# Altium schematic symbol library TIDA_00620.SchLib: 58 symbols (part 5 of 5)
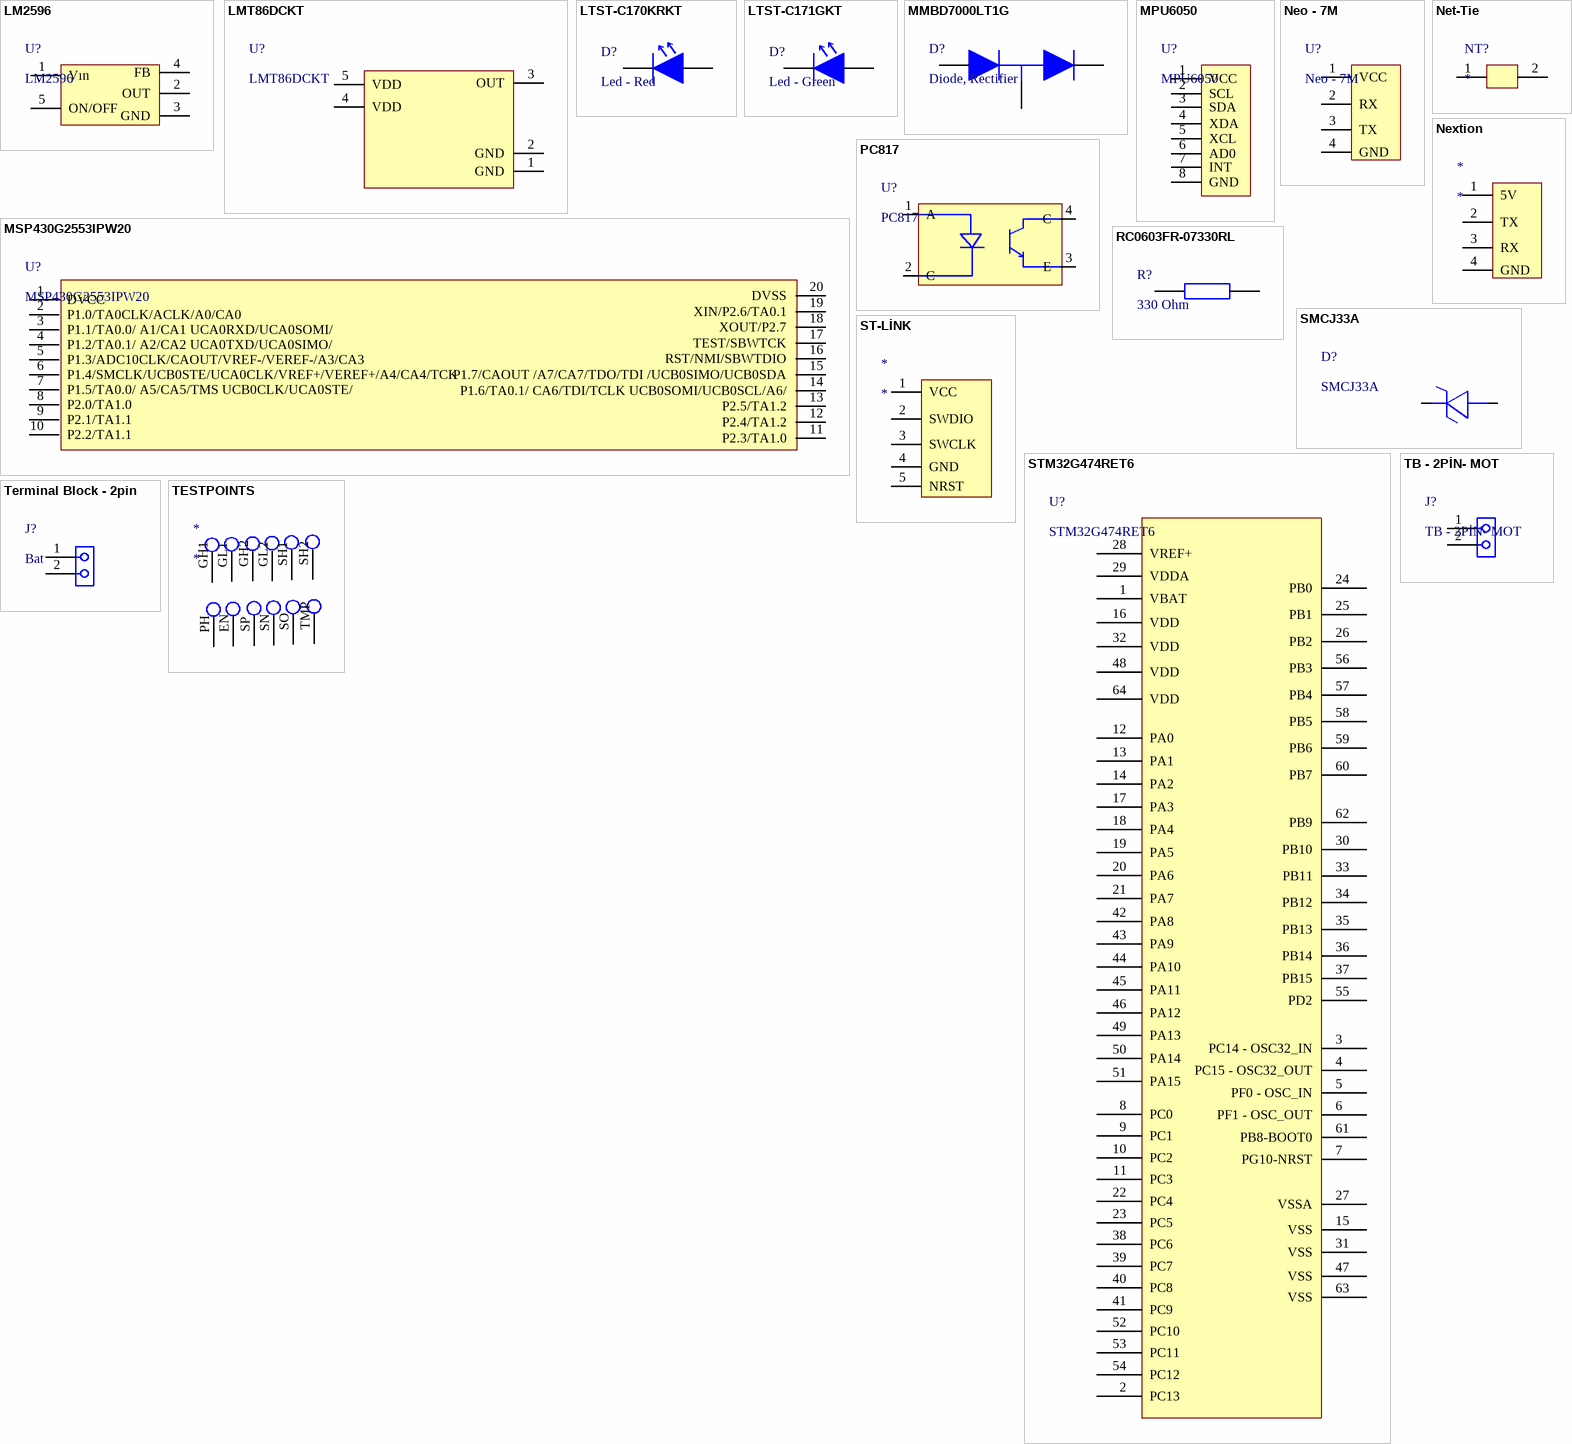
[diagram p5: symbols LM2596 to TESTPOINTS]

## LMT86DCKT
designator U?
2.2V-Capable, 10 uA Analog Output Temperature Sensor in SC70 and TO-92 5-SC70 -50 to 150; Manufacturer: Texas Instruments; Manufacturer Lifecycle Status: OBSOLETE; Max Junction Temperature (Tj): 150°C; Max Supply Voltage: 5.5V; Min Supply Voltage: 2.2V; Nominal Supply Current: 5.4µA; Output Current: 7mA; Output Voltage: 150mV; Supplier: Mouser; Supplier Part Number: 595-LMT86DCKT; Manufacturer Part Number: LMT86DCKT; RoHS: Compliant; Category: Temperature and Humidity Sensors; Stock: 14953; Pricing: 1=1,05, 10=0,822, 50=0,784, 100=0,709, 1000=0,635, 10000=0,596 (USD); Ambient Temperature Range High: 150°C; Case/Package: SC; Height: 1.1mm; Interface: Analog; Lead Free: Lead Free; Length: 2mm; Lifecycle Status: Obsolete; Max Operating Temperature: 150°C; Min Operating Temperature: -50°C; Mounting Technology: Surface Mount; Pins: 5; Operating Supply Current: 5.4µA; Output Type: ANALOG; Packaging: Cut Tape; Quiescent Current: 5.4µA; Radiation Hardening: No; REACH SVHC: No; Schedule B: 8542390000, 8542390000|8542390000|8542390000|8542390000|8542390000; Thickness: 900µm; Width: 1.25mm; ComponentLink1URL: https://sigma.octopart.com:443/182282879/technical_drawing/Texas-Instruments-LMT86DCKT.pdf?src-supplier=Texas+Instruments; ComponentLink1Description: https://sigma.octopart.com:443/182282879/technical_drawing/Texas-Instruments-LMT86DCKT.pdf?src-supplier=Texas+Instruments; ComponentLink2URL: https://octopart.com:443/opatz8j6/c1?t=9HQWOq9vND9b112XOORCH9Vsw1tDULado_71xZVJD5NCDKKbo5Ghebw2v1WkowqZDmkFyXd3CdhKpSqCk7PtQOQ7x-G2JpCPf_WjxdC5NMg5jKfyra5aiwnhNPwQhaItqLqfVAzBzWTS-c0ov57vA77sSY7z2rAPniNTZvNDKUMZfXkGbrAzWQCv1qZrHSDSg3qjKiyU7_eC7562E4E85R2VNSwCtGeJJLgAb4JoBUkX8cOn-YW7xKv7mq24ixEkLrSvCint_SPV1kOoFa0e-FYBvRA-X5e5sItaWLcgSJ4jRxFhImzPQgymLOz7X93vKvNF5nr-spi1A9my05NiWkr-vMM4xm9RJAmqZ0e4SRFjq62_Iov__ZokAK-EkgB-HL_1&src-supplier=Texas+Instruments; ComponentLink2Description: https://octopart.com:443/opatz8j6/c1?t=9HQWOq9vND9b112XOORCH9Vsw1tDULado_71xZVJD5NCDKKbo5Ghebw2v1WkowqZDmkFyXd3CdhKpSqCk7PtQOQ7x-G2JpCPf_WjxdC5NMg5jKfyra5aiwnhNPwQhaItqLqfVAzBzWTS-c0ov57vA77sSY7z2rAPniNTZvNDKUMZfXkGbrAzWQCv1qZrHSDSg3qjKiyU7_eC7562E4E85R2VNSwCtGeJJLgAb4JoBUkX8cOn-YW7xKv7mq24ixEkLrSvCint_SPV1kOoFa0e-FYBvRA-X5e5sItaWLcgSJ4jRxFhImzPQgymLOz7X93vKvNF5nr-spi1A9my05NiWkr-vMM4xm9RJAmqZ0e4SRFjq62_Iov__ZokAK-EkgB-HL_1&src-supplier=Texas+Instruments; ComponentLink3URL: https://sigma.octopart.com:443/179129132/technical_drawing/Texas-Instruments-LMT86DCKT.pdf?src-supplier=Texas+Instruments; ComponentLink3Description: https://sigma.octopart.com:443/179129132/technical_drawing/Texas-Instruments-LMT86DCKT.pdf?src-supplier=Texas+Instruments; ComponentLink4URL: https://sigma.octopart.com:443/176385615/technical_drawing/Texas-Instruments-LMT86DCKT.pdf?src-supplier=Texas+Instruments; ComponentLink4Description: https://sigma.octopart.com:443/176385615/technical_drawing/Texas-Instruments-LMT86DCKT.pdf?src-supplier=Texas+Instruments; ComponentLink5URL: https://sigma.octopart.com:443/169406035/technical_drawing/Texas-Instruments-LMT86DCKT.pdf?src-supplier=Texas+Instruments; ComponentLink5Description: https://sigma.octopart.com:443/169406035/technical_drawing/Texas-Instruments-LMT86DCKT.pdf?src-supplier=Texas+Instruments; ComponentLink6URL: https://datasheet.octopart.com:443/LMT86DCKT-Texas-Instruments-datasheet-41216413.pdf?src-supplier=Texas+Instruments; ComponentLink6Description: https://datasheet.octopart.com:443/LMT86DCKT-Texas-Instruments-datasheet-41216413.pdf?src-supplier=Texas+Instruments; ComponentLink7URL: https://datasheet.octopart.com:443/LMT86DCKT-Texas-Instruments-datasheet-26524829.pdf?src-supplier=Texas+Instruments; ComponentLink7Description: https://datasheet.octopart.com:443/LMT86DCKT-Texas-Instruments-datasheet-26524829.pdf?src-supplier=Texas+Instruments; ComponentLink8URL: https://datasheet.octopart.com:443/LMT86DCKT-Texas-Instruments-datasheet-16054243.pdf?src-supplier=Texas+Instruments; ComponentLink8Description: https://datasheet.octopart.com:443/LMT86DCKT-Texas-Instruments-datasheet-16054243.pdf?src-supplier=Texas+Instruments; ComponentLink9URL: https://datasheet.octopart.com:443/LMT86DCKT-Texas-Instruments-datasheet-14434854.pdf?src-supplier=Texas+Instruments; ComponentLink9Description: https://datasheet.octopart.com:443/LMT86DCKT-Texas-Instruments-datasheet-14434854.pdf?src-supplier=Texas+Instruments; ComponentLink10URL: https://sigma.octopart.com:443/49249326/technical_drawing/Texas-Instruments-LMT86DCKT.pdf?src-supplier=Texas+Instruments; ComponentLink10Description: https://sigma.octopart.com:443/49249326/technical_drawing/Texas-Instruments-LMT86DCKT.pdf?src-supplier=Texas+Instruments; ComponentLink11URL: https://datasheet.octopart.com:443/LMT86DCKT-Texas-Instruments-datasheet-150945993.pdf?src-supplier=Upverter; ComponentLink11Description: https://datasheet.octopart.com:443/LMT86DCKT-Texas-Instruments-datasheet-150945993.pdf?src-supplier=Upverter; ComponentLink12URL: https://datasheet.octopart.com:443/LMT86DCKT-Texas-Instruments-datasheet-86781451.pdf?src-supplier=Farnell; ComponentLink12Description: https://datasheet.octopart.com:443/LMT86DCKT-Texas-Instruments-datasheet-86781451.pdf?src-supplier=Farnell; ComponentLink13URL: https://datasheet.octopart.com:443/LMT86DCKT-Texas-Instruments-datasheet-15501305.pdf?src-supplier=Newark; ComponentLink13Description: https://datasheet.octopart.com:443/LMT86DCKT-Texas-Instruments-datasheet-15501305.pdf?src-supplier=Newark; ComponentLink14URL: https://datasheet.octopart.com:443/LMT86DCKT-Texas-Instruments-datasheet-41204959.pdf?src-supplier=Newark; ComponentLink14Description: https://datasheet.octopart.com:443/LMT86DCKT-Texas-Instruments-datasheet-41204959.pdf?src-supplier=Newark; ComponentLink15URL: https://datasheet.octopart.com:443/LMT86DCKT-Texas-Instruments-datasheet-20674339.pdf?src-supplier=Newark; ComponentLink15Description: https://datasheet.octopart.com:443/LMT86DCKT-Texas-Instruments-datasheet-20674339.pdf?src-supplier=Newark; ComponentLink16URL: https://datasheet.octopart.com:443/LMT86DCKT-Texas-Instruments-datasheet-140571516.pdf?src-supplier=Arrow.cn; ComponentLink16Description: https://datasheet.octopart.com:443/LMT86DCKT-Texas-Instruments-datasheet-140571516.pdf?src-supplier=Arrow.cn; ComponentLink17URL: https://datasheet.octopart.com:443/LMT86DCKT-Texas-Instruments-datasheet-44401093.pdf?src-supplier=TME; ComponentLink17Description: https://datasheet.octopart.com:443/LMT86DCKT-Texas-Instruments-datasheet-44401093.pdf?src-supplier=TME; ComponentLink18URL: https://datasheet.octopart.com:443/LMT86DCKT-.-Texas-Instruments-datasheet-33010446.pdf?src-supplier=element14+APAC; ComponentLink18Description: https://datasheet.octopart.com:443/LMT86DCKT-.-Texas-Instruments-datasheet-33010446.pdf?src-supplier=element14+APAC; ComponentLink19URL: http://sigma.octopart.com:80/reach_statement/Texas-Instruments-company-64.pdf?src-supplier=Compliance+Statements; ComponentLink19Description: http://sigma.octopart.com:80/reach_statement/Texas-Instruments-company-64.pdf?src-supplier=Compliance+Statements; ComponentLink20URL: http://sigma.octopart.com:80/conflict_mineral_statement/Texas-Instruments-company-63.pdf?src-supplier=Compliance+Statements; ComponentLink20Description: http://sigma.octopart.com:80/conflict_mineral_statement/Texas-Instruments-company-63.pdf?src-supplier=Compliance+Statements
footprint LMT86DCKT
pins: 1 GND (power), 2 GND (power), 3 OUT, 4 VDD (power), 5 VDD (power)

## LTST-C170KRKT
designator D?, comment Led - Red
Single-color LEDs; LITEON; LTST-C170KRKT; Red; 130 °; 2 V; 0805; Manufacturer: Lite-On; Dominant Wavelength: 631nm; Forward Current: 30mA; Forward Voltage: 2.4V; Lens Color: Clear, Colorless; Lens Style: Clear; Luminous Intensity: 18mcd; Number of Circuits: 1; Peak Wavelength: 639nm; Power Dissipation: 75mW; Reverse Voltage: 5V; Shape: Rectangular; Test Current: 20mA; Viewing Angle: 130°; Designed: Emre; Supplier: Avnet; Supplier Part Number: LTST-C170KRKT; Manufacturer Part Number: LTST-C170KRKT; RoHS: Compliant; Category: LEDs; Stock: 195000; Pricing: 6000=0,03219, 12000=0,03146, 24000=0,03073, 48000=0,03001, 96000=0,02928 (USD); Case/Package: 0805; Case Code (Imperial): 0805; Case Code (Metric): 2012; China RoHS: Compliant; Color: Red; Depth: 1.6mm; Height: 1.1mm; Illumination Color: Red; Lead Free: Lead Free; Length: 3.2mm; Lens Transparency: Clear; Lifecycle Status: Production; Max Operating Temperature: 85°C; Min Operating Temperature: -55°C; Mounting Technology: Surface Mount; Number of Elements: 1; Number of LEDs: 1; Pins: 2; Number of Terminals: 2; Packaging: Cut Tape; Power Rating: 75mW; Radiation Hardening: No; REACH SVHC: Yes; Schedule B: 8541402000, 8541402000|8541402000|8541402000|8541402000|8541402000; Terminal Pitch: 2.1mm; Wavelength: 631nm; Width: 1.25mm; ComponentLink1URL: https://datasheet.octopart.com:443/LTST-C170KRKT-Lite-On-datasheet-26684674.pdf?src-supplier=Upverter; ComponentLink1Description: https://datasheet.octopart.com:443/LTST-C170KRKT-Lite-On-datasheet-26684674.pdf?src-supplier=Upverter; ComponentLink2URL: https://datasheet.octopart.com:443/LTST-C170KRKT-Lite-On-datasheet-180605146.pdf?src-supplier=IHS; ComponentLink2Description: https://datasheet.octopart.com:443/LTST-C170KRKT-Lite-On-datasheet-180605146.pdf?src-supplier=IHS; ComponentLink3URL: https://datasheet.octopart.com:443/LTST-C170KRKT-Lite-On-datasheet-158436.pdf?src-supplier=_legacy+Avnet; ComponentLink3Description: https://datasheet.octopart.com:443/LTST-C170KRKT-Lite-On-datasheet-158436.pdf?src-supplier=_legacy+Avnet; ComponentLink4URL: https://datasheet.octopart.com:443/LTST-C170KRKT-Lite-On-datasheet-157246157.pdf?src-supplier=ODG+(Origin+Data+Global); ComponentLink4Description: https://datasheet.octopart.com:443/LTST-C170KRKT-Lite-On-datasheet-157246157.pdf?src-supplier=ODG+(Origin+Data+Global); ComponentLink5URL: https://datasheet.octopart.com:443/LTST-C170KRKT-Lite-On-datasheet-166322636.pdf?src-supplier=TME; ComponentLink5Description: https://datasheet.octopart.com:443/LTST-C170KRKT-Lite-On-datasheet-166322636.pdf?src-supplier=TME; ComponentLink6URL: https://datasheet.octopart.com:443/LTST-C170KRKT-Lite-On-datasheet-165573808.pdf?src-supplier=TME; ComponentLink6Description: https://datasheet.octopart.com:443/LTST-C170KRKT-Lite-On-datasheet-165573808.pdf?src-supplier=TME; ComponentLink7URL: https://datasheet.octopart.com:443/LTST-C170KRKT-Lite-On-datasheet-8325281.pdf?src-supplier=Future+Electronics; ComponentLink7Description: https://datasheet.octopart.com:443/LTST-C170KRKT-Lite-On-datasheet-8325281.pdf?src-supplier=Future+Electronics; ComponentLink8URL: https://datasheet.octopart.com:443/LTST-C170KRKT-Lite-On-datasheet-94966.pdf?src-supplier=DigiKey; ComponentLink8Description: https://datasheet.octopart.com:443/LTST-C170KRKT-Lite-On-datasheet-94966.pdf?src-supplier=DigiKey
footprint LED_0805 (LTST-C170KRKT, LTST-C171GKT)
pins: 1 (power), 2 (power)

## LTST-C171GKT
designator D?, comment Led - Green
LED Low-Power Uni-Color Green 565nm 2.1V 2-Pin Chip LED T/R; Manufacturer: Lite-On; Manufacturer Part Number: LTST-C171GKT; Dominant Wavelength: 569nm; Forward Current: 30mA; Forward Voltage: 2.6V; Lens Color: Clear, Colorless; Lens Style: Clear; Luminous Intensity: 12mcd; Number of Circuits: 1; Power Dissipation: 100mW; Reverse Voltage: 5V; Shape: Rectangular; Test Current: 10mA; Viewing Angle: 130°; Designed: Emre; Supplier: Future Electronics; Supplier Part Number: 5010270; RoHS: Compliant; Category: LEDs; Stock: 63000; Pricing: 3000=0,0234, 9000=0,0228, 30000=0,0223, 60000=0,0219, 120000=0,0213 (USD); Case/Package: 0805; Case Code (Imperial): 0805; Case Code (Metric): 2012; China RoHS: Compliant; Color: Green; Contact Plating: Gold; Depth: 1.25mm; Height: 800µm; Illumination Color: Green; Lead Free: Lead Free; Length: 2mm; Lens Transparency: Clear; Lifecycle Status: Production; Max Operating Temperature: 85°C; Min Operating Temperature: -55°C; Mounting Technology: Surface Mount; Number of Elements: 1; Number of LEDs: 1; Pins: 2; Number of Terminals: 2; Peak Wavelength: 565nm; Power Rating: 100mW; Radiation Hardening: No; REACH SVHC: Yes; Schedule B: 8541402000, 8541402000|8541402000, 8541402000|8541402000|8541402000, 8541402000|8541402000|8541402000|8541402000; Terminal Pitch: 2.5mm; Wavelength: 569nm; Width: 1.25mm; ComponentLink1URL: https://datasheet.octopart.com:443/LTST-C171GKT-Lite-On-datasheet-95087.pdf?src-supplier=Upverter; ComponentLink1Description: https://datasheet.octopart.com:443/LTST-C171GKT-Lite-On-datasheet-95087.pdf?src-supplier=Upverter; ComponentLink2URL: https://sigma.octopart.com:443/141439007/technical_drawing/Lite-On-LTST-C171GKT.pdf?src-supplier=Upverter; ComponentLink2Description: https://sigma.octopart.com:443/141439007/technical_drawing/Lite-On-LTST-C171GKT.pdf?src-supplier=Upverter; ComponentLink3URL: https://datasheet.octopart.com:443/LTST-C171GKT-Lite-On-datasheet-180605156.pdf?src-supplier=IHS; ComponentLink3Description: https://datasheet.octopart.com:443/LTST-C171GKT-Lite-On-datasheet-180605156.pdf?src-supplier=IHS; ComponentLink4URL: https://datasheet.octopart.com:443/LTST-C171GKT-Lite-On-datasheet-158474.pdf?src-supplier=Arrow+Electronics; ComponentLink4Description: https://datasheet.octopart.com:443/LTST-C171GKT-Lite-On-datasheet-158474.pdf?src-supplier=Arrow+Electronics; ComponentLink5URL: https://datasheet.octopart.com:443/LTST-C171GKT-Lite-On-datasheet-7823512.pdf?src-supplier=Jameco; ComponentLink5Description: https://datasheet.octopart.com:443/LTST-C171GKT-Lite-On-datasheet-7823512.pdf?src-supplier=Jameco; ComponentLink6URL: https://datasheet.octopart.com:443/LTST-C171GKT-Lite-On-datasheet-62340966.pdf?src-supplier=TME; ComponentLink6Description: https://datasheet.octopart.com:443/LTST-C171GKT-Lite-On-datasheet-62340966.pdf?src-supplier=TME
footprint LED_0805 (LTST-C170KRKT, LTST-C171GKT)
pins: 1 (power), 2 (power)

## MMBD7000LT1G
designator D?, comment Diode, Rectifier
Diode, Rectifier, Switching, Vr 100VDC, If 200MA, Pkg SOT-23 (TO-236AB), Config Dual; Manufacturer: onsemi; Manufacturer Part Number: MMBD7000LT1G; Manufacturer Lifecycle Status: ACTIVE; Value: 1.5pF; Element Configuration: Common Cathode; Forward Voltage: 1.1V; Max Forward Surge Current (Ifsm): 1.6A; Max Junction Temperature (Tj): 150°C; Max Power Dissipation: 225mW; Max Repetitive Reverse Voltage (Vrrm): 100V; Max Reverse Leakage Current: 3µA; Max Surge Current: 500mA; Number of Elements: 2; Power Dissipation: 300mW; Recovery Time: 4ns; Supplier: Future Electronics; Supplier Part Number: 9072660; RoHS: Compliant; Category: Rectifier Diodes; Stock: 3288000; Pricing: 3000=0,017, 9000=0,0166, 15000=0,0164, 60000=0,0159, 90000=0,0156 (USD); Average Rectified Current: 200mA; Case/Package: SOT-23; China RoHS: Compliant; Contact Plating: Tin; Current Rating: 200mA; Forward Current: 200mA; Halogen Free: Halogen Free; Height: 1.11mm; Lead Free: Lead Free; Length: 2.9mm; Lifecycle Status: Production; Max Operating Temperature: 150°C; Max Output current: 200mA; Max Reverse Voltage (DC): 100V; Min Operating Temperature: -55°C; Pins: 3; Number of Terminals: 3; Packaging: Tape and Reel; Peak Non-Repetitive Surge Current: 500mA; Peak Reverse Current: 3µA; Radiation Hardening: No; REACH SVHC: Yes; Reverse Recovery Time: 4ns; Reverse Standoff Voltage: 100V; Reverse Voltage: 100V; Schedule B: 8541100070, 8541100070|8541100070|8541100070|8541100070|8541100070; Voltage Rating (DC): 100V; Width: 1.3mm; ComponentLink1URL: https://datasheet.octopart.com:443/MMBD7000LT1G-onsemi-datasheet-180963513.pdf?src-supplier=IHS; ComponentLink1Description: https://datasheet.octopart.com:443/MMBD7000LT1G-onsemi-datasheet-180963513.pdf?src-supplier=IHS; ComponentLink2URL: https://datasheet.octopart.com:443/MMBD7000LT1G-ON-Semiconductor-datasheet-93401931.pdf?src-supplier=Newark; ComponentLink2Description: https://datasheet.octopart.com:443/MMBD7000LT1G-ON-Semiconductor-datasheet-93401931.pdf?src-supplier=Newark; ComponentLink3URL: https://datasheet.octopart.com:443/MMBD7000LT1G-ON-Semiconductor-datasheet-11974380.pdf?src-supplier=Newark; ComponentLink3Description: https://datasheet.octopart.com:443/MMBD7000LT1G-ON-Semiconductor-datasheet-11974380.pdf?src-supplier=Newark; ComponentLink4URL: https://datasheet.octopart.com:443/MMBD7000LT1G-ON-Semiconductor-datasheet-8327385.pdf?src-supplier=Newark; ComponentLink4Description: https://datasheet.octopart.com:443/MMBD7000LT1G-ON-Semiconductor-datasheet-8327385.pdf?src-supplier=Newark; ComponentLink5URL: https://datasheet.octopart.com:443/MMBD7000LT1G-ON-Semiconductor-datasheet-7594318.pdf?src-supplier=Newark; ComponentLink5Description: https://datasheet.octopart.com:443/MMBD7000LT1G-ON-Semiconductor-datasheet-7594318.pdf?src-supplier=Newark; ComponentLink6URL: https://sigma.octopart.com:443/138897241/technical_drawing/ON-Semiconductor-MMBD7000LT1G.pdf?src-supplier=Upverter; ComponentLink6Description: https://sigma.octopart.com:443/138897241/technical_drawing/ON-Semiconductor-MMBD7000LT1G.pdf?src-supplier=Upverter; ComponentLink7URL: https://datasheet.octopart.com:443/MMBD7000LT1G-ON-Semiconductor-datasheet-14052313.pdf?src-supplier=iiiC; ComponentLink7Description: https://datasheet.octopart.com:443/MMBD7000LT1G-ON-Semiconductor-datasheet-14052313.pdf?src-supplier=iiiC; ComponentLink8URL: https://datasheet.octopart.com:443/MMBD7000LT1G-ON-Semiconductor-datasheet-9951378.pdf?src-supplier=RS+(Formerly+Allied+Electronics); ComponentLink8Description: https://datasheet.octopart.com:443/MMBD7000LT1G-ON-Semiconductor-datasheet-9951378.pdf?src-supplier=RS+(Formerly+Allied+Electronics); ComponentLink9URL: http://sigma.octopart.com:80/15540786/rohs_certificate/ON-Semiconductor-MMBD7000LT1G.pdf?src-supplier=Compliance+Statements; ComponentLink9Description: http://sigma.octopart.com:80/15540786/rohs_certificate/ON-Semiconductor-MMBD7000LT1G.pdf?src-supplier=Compliance+Statements; ComponentLink10URL: http://sigma.octopart.com:80/15680733/materials_sheet/ON-Semiconductor-MMBD7000LT1G.csv?src-supplier=Compliance+Statements; ComponentLink10Description: http://sigma.octopart.com:80/15680733/materials_sheet/ON-Semiconductor-MMBD7000LT1G.csv?src-supplier=Compliance+Statements; ComponentLink11URL: http://sigma.octopart.com:80/150618295/rohs_statement/ON-Semiconductor-MMBD7000LT1G.pdf?src-supplier=Compliance+Statements; ComponentLink11Description: http://sigma.octopart.com:80/150618295/rohs_statement/ON-Semiconductor-MMBD7000LT1G.pdf?src-supplier=Compliance+Statements; ComponentLink12URL: http://sigma.octopart.com:80/reach_statement/ON-Semiconductor-company-79.pdf?src-supplier=Compliance+Statements; ComponentLink12Description: http://sigma.octopart.com:80/reach_statement/ON-Semiconductor-company-79.pdf?src-supplier=Compliance+Statements; ComponentLink13URL: https://octopart.com:443/opatz8j6/c1?t=fJzi0fIB4MdtCKTN66uwhwNTDQrl0R6yc-1-o3J3PffONZWqkIMU2L6fpiOR1oZSET9f3sqQd7ykmPSoW81IbVPyVBFwBUdoF7sQArq84QgRXK9HCf9McP42Xxbn8aEVplU8K_KhDjglBkkd9-zc6p6-CJ9lKtUv1E-pLWoCkW-rqVYkDrRqY25a9IANyKSZPTXd9uYNFNsED4muOrsd3TsRENCZ-qK4VhaX_vUYcK9Gw4t3xLVeKujJSZ8XqnAeUNLu-KLCkd9ZYDHLxs26vmVP-01owMmpb_Xcng6l6BxctXB2teJ_8DlD7F4xEPdo8zgBrTChEy1yUUAOwSlcpT_LSdYnlYZv39SBVKs&src-supplier=Compliance+Statements; ComponentLink13Description: https://octopart.com:443/opatz8j6/c1?t=fJzi0fIB4MdtCKTN66uwhwNTDQrl0R6yc-1-o3J3PffONZWqkIMU2L6fpiOR1oZSET9f3sqQd7ykmPSoW81IbVPyVBFwBUdoF7sQArq84QgRXK9HCf9McP42Xxbn8aEVplU8K_KhDjglBkkd9-zc6p6-CJ9lKtUv1E-pLWoCkW-rqVYkDrRqY25a9IANyKSZPTXd9uYNFNsED4muOrsd3TsRENCZ-qK4VhaX_vUYcK9Gw4t3xLVeKujJSZ8XqnAeUNLu-KLCkd9ZYDHLxs26vmVP-01owMmpb_Xcng6l6BxctXB2teJ_8DlD7F4xEPdo8zgBrTChEy1yUUAOwSlcpT_LSdYnlYZv39SBVKs&src-supplier=Compliance+Statements; ComponentLink14URL: https://octopart.com:443/opatz8j6/c1?t=N1jse5SDITeLKb_wvSGF9pa6jKWEWkAYcFkkpAAnHV3Vd79y8qUbk5HCcoRESrSHu0Hyq0nMkTrSwGQAhCOn-sO9n9VDx1ewvH57BqoORsnXpb25gl-_AjQY-smkuij4PA4eRxvb_RCv93MKZ9Ayiv5bTIDtF7Et_qmDJv7nxzNpTsdL9uERhEolYwlUZk5v09syotKZOBVVkeuv1k5jdyjjxQJtg-x9fTcqpHW1a23nLFAPrYvSi-TMoWBDYTPh0VDbIfZtVfwDxSiOW63Td902C2qC70cSuDqU3YJEUzhtCEuMvYss7Cpx9wprQ9E-CsJYJDMS9SAJ1G0zDb4qiRBmVF2PUnPvWq_yzw&src-supplier=Compliance+Statements; ComponentLink14Description: https://octopart.com:443/opatz8j6/c1?t=N1jse5SDITeLKb_wvSGF9pa6jKWEWkAYcFkkpAAnHV3Vd79y8qUbk5HCcoRESrSHu0Hyq0nMkTrSwGQAhCOn-sO9n9VDx1ewvH57BqoORsnXpb25gl-_AjQY-smkuij4PA4eRxvb_RCv93MKZ9Ayiv5bTIDtF7Et_qmDJv7nxzNpTsdL9uERhEolYwlUZk5v09syotKZOBVVkeuv1k5jdyjjxQJtg-x9fTcqpHW1a23nLFAPrYvSi-TMoWBDYTPh0VDbIfZtVfwDxSiOW63Td902C2qC70cSuDqU3YJEUzhtCEuMvYss7Cpx9wprQ9E-CsJYJDMS9SAJ1G0zDb4qiRBmVF2PUnPvWq_yzw&src-supplier=Compliance+Statements
footprint SOT-23-3 - MMBD7000LT1G
pins: 1, 2, 3

## MPU6050
designator U?
IMU (Inertial Measurement Unit), 6-Axis, Accelerometer, Gyroscope; Manufacturer: InvenSense; Interface: I2C; Max Supply Voltage: 3.46V; Min Supply Voltage: 2.375V; Number of Circuits: 1; Operating Supply Voltage: 2.5V; Output Type: Digital; Power Rating: 100mW; Value: 5.6kΩ; Tolerance: 1%; Voltage Rating: 75V; Supplier: Farnell; Supplier Part Number: 1864742; Manufacturer Part Number: MPU-6050; RoHS: Compliant; Category: Inertial Measurement Units (IMUs); Pricing: 1=6,83, 10=5,7, 25=5,35, 50=5,05, 100=4,81, 250=4,63, 500=4,43 (EUR); Case/Package: 0603; Case Code (Imperial): 0603; Case Code (Metric): 1608; Height: 450µm; Height - Seated (Max): 950µm; Length: 4mm; Lifecycle Status: NRND; Max Length: 4.1mm; Max Operating Temperature: 85°C; Max Thickness: 950µm; Max Width: 4.1mm; Min Length: 3.9mm; Min Operating Temperature: -40°C; Min Thickness: 850µm; Min Width: 3.9mm; Mounting Technology: Surface Mount; Pins: 24; Number of Terminals: 24; Packaging: Tape and Reel; Radiation Hardening: No; REACH SVHC: Yes; Terminal Pitch: 500µm; Width: 4mm; ComponentLink1URL: https://datasheet.octopart.com:443/MPU-6050-InvenSense-datasheet-17844634.pdf?src-supplier=Upverter; ComponentLink1Description: https://datasheet.octopart.com:443/MPU-6050-InvenSense-datasheet-17844634.pdf?src-supplier=Upverter; ComponentLink2URL: https://datasheet.octopart.com:443/MPU-6050-InvenSense-datasheet-21631037.pdf?src-supplier=IHS; ComponentLink2Description: https://datasheet.octopart.com:443/MPU-6050-InvenSense-datasheet-21631037.pdf?src-supplier=IHS; ComponentLink3URL: https://datasheet.octopart.com:443/MPU-6050-InvenSense-datasheet-14421344.pdf?src-supplier=element14+APAC; ComponentLink3Description: https://datasheet.octopart.com:443/MPU-6050-InvenSense-datasheet-14421344.pdf?src-supplier=element14+APAC; ComponentLink4URL: https://datasheet.octopart.com:443/MPU-6050-InvenSense-datasheet-8859467.pdf?src-supplier=Newark; ComponentLink4Description: https://datasheet.octopart.com:443/MPU-6050-InvenSense-datasheet-8859467.pdf?src-supplier=Newark; ComponentLink5URL: https://datasheet.octopart.com:443/MPU-6050-InvenSense-datasheet-155375909.pdf?src-supplier=TDK; ComponentLink5Description: https://datasheet.octopart.com:443/MPU-6050-InvenSense-datasheet-155375909.pdf?src-supplier=TDK; ComponentLink6URL: https://datasheet.octopart.com:443/MPU-6050-InvenSense-datasheet-11762955.pdf?src-supplier=Farnell; ComponentLink6Description: https://datasheet.octopart.com:443/MPU-6050-InvenSense-datasheet-11762955.pdf?src-supplier=Farnell
footprint MPU6050
pins: 1 VCC (power), 2 SCL, 3 SDA, 4 XDA, 5 XCL, 6 AD0, 7 INT, 8 GND (power)

## MSP430G2553IPW20
designator U?
16 MHz MCU with 16KB Flash, 512B SRAM, comparator, UART/SPI/I2C, timer 20-TSSOP -40 to 85; Manufacturer: Texas Instruments; Manufacturer Lifecycle Status: ACTIVE; Core Architecture: MSP430; Data Bus Width: 16b; Frequency: 16MHz; Interface: I2C, IrDA, LIN, SCI, SPI, UART, USART; Max Supply Voltage: 3.6V; Min Supply Voltage: 1.8V; Number of A/D Converters: 8; Number of GPIO: 24; Number of I2C Channels: 1; Number of I/Os: 16; Number of SPI Channels: 2; Oscillator Type: Internal; Peripherals: Brown-out Detect/Reset, DMA, POR, PWM, WDT; Watchdog Timer: Yes; Supplier: Mouser; Supplier Part Number: 595-MSP430G2553IPW20; Manufacturer Part Number: MSP430G2553IPW20; RoHS: Compliant; Category: Microcontrollers; Stock: 807; Pricing: 1=3,33, 10=2,5, 50=2,29, 100=2,06, 1000=1,89, 10000=1,78 (USD); Case/Package: TSSOP; Contact Plating: Gold; Height: 0m; Lead Free: Lead Free; Length: 6.5mm; Lifecycle Status: Production; Clock Frequency: 16MHz; Max Operating Temperature: 85°C; Memory Size: 16kB; Memory Format: FLASH; Min Operating Temperature: -40°C; Number of ADC Channels: 8; Pins: 20; Number of Programmable I/O: 16; Number of Timers/Counters: 2; Number of UART Channels: 1; Radiation Hardening: No; RAM Size: 512B; REACH SVHC: No; Schedule B: 8542310000, 8542310000|8542310000|8542310000|8542310000|8542310000; Thickness: 1mm; Width: 4.4mm; ComponentLink1URL: https://sigma.octopart.com:443/157851284/technical_drawing/Texas-Instruments-MSP430G2553IPW20.pdf?src-supplier=Texas+Instruments; ComponentLink1Description: https://sigma.octopart.com:443/157851284/technical_drawing/Texas-Instruments-MSP430G2553IPW20.pdf?src-supplier=Texas+Instruments; ComponentLink2URL: https://octopart.com:443/opatz8j6/c1?t=BM_AaH6cLRd2g8YWGHGWJ_k9PRWEZd1_3wS3TvW9qwNvspzB582LO8Zt6U_sVR6a6vnEHyXreb8g3J6X7QVgAmaXNF-nJPNiavpZZdb1i_Vj-LhIj-QZbOf1yhALqZ5AEMOBvmCgQ7GywWIpUyGlOdH7cowwXUVAmvXmre306Ud8iyGjCCe1mukjPqQIObzCX6ksLY-64kopGeNM5pGfFhb_oX62anS-6z9PJYwX18AG_dSjxqQAOL4m7elZKvCRQUvIlOwyLonXAwRX-ZBUc4vXF_ReqiPdKwPvDOpaXirnsdegeQhdbsbLOMYAAS8IZAk4xEeND5f3WMuGENn0p0JA3HHUXW6eKrjhpkIJ3IhJIFp-C9COz_jp_ftyqf94lnwXi0Fg2J5J&src-supplier=Texas+Instruments; ComponentLink2Description: https://octopart.com:443/opatz8j6/c1?t=BM_AaH6cLRd2g8YWGHGWJ_k9PRWEZd1_3wS3TvW9qwNvspzB582LO8Zt6U_sVR6a6vnEHyXreb8g3J6X7QVgAmaXNF-nJPNiavpZZdb1i_Vj-LhIj-QZbOf1yhALqZ5AEMOBvmCgQ7GywWIpUyGlOdH7cowwXUVAmvXmre306Ud8iyGjCCe1mukjPqQIObzCX6ksLY-64kopGeNM5pGfFhb_oX62anS-6z9PJYwX18AG_dSjxqQAOL4m7elZKvCRQUvIlOwyLonXAwRX-ZBUc4vXF_ReqiPdKwPvDOpaXirnsdegeQhdbsbLOMYAAS8IZAk4xEeND5f3WMuGENn0p0JA3HHUXW6eKrjhpkIJ3IhJIFp-C9COz_jp_ftyqf94lnwXi0Fg2J5J&src-supplier=Texas+Instruments; ComponentLink3URL: https://datasheet.octopart.com:443/MSP430G2553IPW20-Texas-Instruments-datasheet-12562304.pdf?src-supplier=Texas+Instruments; ComponentLink3Description: https://datasheet.octopart.com:443/MSP430G2553IPW20-Texas-Instruments-datasheet-12562304.pdf?src-supplier=Texas+Instruments; ComponentLink4URL: https://datasheet.octopart.com:443/MSP430G2553IPW20-Texas-Instruments-datasheet-12079247.pdf?src-supplier=Texas+Instruments; ComponentLink4Description: https://datasheet.octopart.com:443/MSP430G2553IPW20-Texas-Instruments-datasheet-12079247.pdf?src-supplier=Texas+Instruments; ComponentLink5URL: https://datasheet.octopart.com:443/MSP430G2553IPW20-Texas-Instruments-datasheet-11473834.pdf?src-supplier=Texas+Instruments; ComponentLink5Description: https://datasheet.octopart.com:443/MSP430G2553IPW20-Texas-Instruments-datasheet-11473834.pdf?src-supplier=Texas+Instruments; ComponentLink6URL: https://datasheet.octopart.com:443/MSP430G2553IPW20-Texas-Instruments-datasheet-10669762.pdf?src-supplier=Texas+Instruments; ComponentLink6Description: https://datasheet.octopart.com:443/MSP430G2553IPW20-Texas-Instruments-datasheet-10669762.pdf?src-supplier=Texas+Instruments; ComponentLink7URL: https://datasheet.octopart.com:443/MSP430G2553IPW20-Texas-Instruments-datasheet-10284062.pdf?src-supplier=Texas+Instruments; ComponentLink7Description: https://datasheet.octopart.com:443/MSP430G2553IPW20-Texas-Instruments-datasheet-10284062.pdf?src-supplier=Texas+Instruments; ComponentLink8URL: https://sigma.octopart.com:443/49249835/technical_drawing/Texas-Instruments-MSP430G2553IPW20.pdf?src-supplier=Texas+Instruments; ComponentLink8Description: https://sigma.octopart.com:443/49249835/technical_drawing/Texas-Instruments-MSP430G2553IPW20.pdf?src-supplier=Texas+Instruments; ComponentLink9URL: https://datasheet.octopart.com:443/MSP430G2553IPW20-Texas-Instruments-datasheet-83111403.pdf?src-supplier=Newark; ComponentLink9Description: https://datasheet.octopart.com:443/MSP430G2553IPW20-Texas-Instruments-datasheet-83111403.pdf?src-supplier=Newark; ComponentLink10URL: https://datasheet.octopart.com:443/MSP430G2553IPW20-Texas-Instruments-datasheet-60566249.pdf?src-supplier=Newark; ComponentLink10Description: https://datasheet.octopart.com:443/MSP430G2553IPW20-Texas-Instruments-datasheet-60566249.pdf?src-supplier=Newark; ComponentLink11URL: https://datasheet.octopart.com:443/MSP430G2553IPW20-Texas-Instruments-datasheet-37722577.pdf?src-supplier=Newark; ComponentLink11Description: https://datasheet.octopart.com:443/MSP430G2553IPW20-Texas-Instruments-datasheet-37722577.pdf?src-supplier=Newark; ComponentLink12URL: https://datasheet.octopart.com:443/MSP430G2553IPW20-Texas-Instruments-datasheet-37564311.pdf?src-supplier=Upverter; ComponentLink12Description: https://datasheet.octopart.com:443/MSP430G2553IPW20-Texas-Instruments-datasheet-37564311.pdf?src-supplier=Upverter; ComponentLink13URL: https://datasheet.octopart.com:443/MSP430G2553IPW20-Texas-Instruments-datasheet-17020650.pdf?src-supplier=Upverter; ComponentLink13Description: https://datasheet.octopart.com:443/MSP430G2553IPW20-Texas-Instruments-datasheet-17020650.pdf?src-supplier=Upverter; ComponentLink14URL: https://datasheet.octopart.com:443/MSP430G2553IPW20-Texas-Instruments-datasheet-164415835.pdf?src-supplier=SHENGYU+ELECTRONICS; ComponentLink14Description: https://datasheet.octopart.com:443/MSP430G2553IPW20-Texas-Instruments-datasheet-164415835.pdf?src-supplier=SHENGYU+ELECTRONICS; ComponentLink15URL: https://datasheet.octopart.com:443/MSP430G2553IPW20-Texas-Instruments-datasheet-165804214.pdf?src-supplier=LCSC; ComponentLink15Description: https://datasheet.octopart.com:443/MSP430G2553IPW20-Texas-Instruments-datasheet-165804214.pdf?src-supplier=LCSC; ComponentLink16URL: https://datasheet.octopart.com:443/MSP430G2553IPW20-Texas-Instruments-datasheet-65713300.pdf?src-supplier=element14+APAC; ComponentLink16Description: https://datasheet.octopart.com:443/MSP430G2553IPW20-Texas-Instruments-datasheet-65713300.pdf?src-supplier=element14+APAC; ComponentLink17URL: http://sigma.octopart.com:80/reach_statement/Texas-Instruments-company-64.pdf?src-supplier=Compliance+Statements; ComponentLink17Description: http://sigma.octopart.com:80/reach_statement/Texas-Instruments-company-64.pdf?src-supplier=Compliance+Statements; ComponentLink18URL: http://sigma.octopart.com:80/conflict_mineral_statement/Texas-Instruments-company-63.pdf?src-supplier=Compliance+Statements; ComponentLink18Description: http://sigma.octopart.com:80/conflict_mineral_statement/Texas-Instruments-company-63.pdf?src-supplier=Compliance+Statements
footprint MSP430G2553IPW20 (SOP, 16-Leads, Body 10,30x7,50mm, Pitch 1,27mm, IPC Medium Density)
pins: 1 DVCC (power), 2 P1.0/TA0CLK/ACLK/A0/CA0, 3 P1.1/TA0.0/ A1/CA1 UCA0RXD/UCA0SOMI/, 4 P1.2/TA0.1/ A2/CA2 UCA0TXD/UCA0SIMO/, 5 P1.3/ADC10CLK/CAOUT/VREF-/VEREF-/A3/CA3 , 6 P1.4/SMCLK/UCB0STE/UCA0CLK/VREF+/VEREF+/A4/CA4/TCK, 7 P1.5/TA0.0/ A5/CA5/TMS UCB0CLK/UCA0STE/, 8 P2.0/TA1.0, 9 P2.1/TA1.1, 10 P2.2/TA1.1 , 11 P2.3/TA1.0, 12 P2.4/TA1.2, 13 P2.5/TA1.2, 14 P1.6/TA0.1/ CA6/TDI/TCLK UCB0SOMI/UCB0SCL/A6/, 15 P1.7/CAOUT /A7/CA7/TDO/TDI /UCB0SIMO/UCB0SDA, 16 RST/NMI/SBWTDIO, 17 TEST/SBWTCK, 18 XOUT/P2.7, 19 XIN/P2.6/TA0.1, 20 DVSS (power)

## Neo - 7M
designator U?
footprint Neo - 7M
pins: 1 VCC, 2 RX, 3 TX, 4 GND

## Net-Tie
designator NT?  (net tie, no BOM)
Net-Tie
footprint Net-Tie
pins: 1, 2

## Nextion
designator *
footprint Nextion
pins: 1 5V, 2 TX, 3 RX, 4 GND

## PC817
designator U?
Optocoupler DC-IN 1-CH Transistor DC-OUT 4-Pin PDIP Sleeve; Manufacturer: Sharp; Manufacturer Part Number: PC817X1J000F; Collector Emitter Breakdown Voltage: 80V; Collector Emitter Saturation Voltage: 200mV; Current Transfer Ratio: 80%; Dark Current: 100nA; Fall Time: 18µs; Forward Current: 50mA; Forward Voltage: 1.2V; Input Current: 20mA; Isolation Voltage: 5kV; Max Power Dissipation: 200mW; Number of Channels: 1; Reverse Breakdown Voltage: 6V; Supplier: Farnell; Supplier Part Number: 9707697; RoHS: Compliant; Category: Optocouplers; Pricing: 1=0,92, 25=0,49, 100=0,33, 250=0,28, 500=0,24, 1000=0,21, 3000=0,191, 10000=0,171 (EUR); Case/Package: DIP; Collector Emitter Voltage (VCEO): 80V; Height: 4.5mm; Lead Free: Lead Free; Lifecycle Status: Obsolete; Max Collector Current: 50mA; Max Input Current: 50mA; Max Operating Temperature: 100°C; Min Operating Temperature: -30°C; Mounting Technology: Through Hole; Number of Elements: 1; Pins: 4; Output Current per Channel: 50mA; Output Voltage: 80V; Power Dissipation: 200mW; Radiation Hardening: No; REACH SVHC: Yes; Reverse Voltage: 6V; Rise Time: 18µs; Width: 6.5mm; ComponentLink1URL: https://datasheet.octopart.com:443/PC817X1J000F-Sharp-datasheet-162829.pdf?src-supplier=element14+APAC; ComponentLink1Description: https://datasheet.octopart.com:443/PC817X1J000F-Sharp-datasheet-162829.pdf?src-supplier=element14+APAC; ComponentLink2URL: https://datasheet.octopart.com:443/PC817X1J000F-Sharp-datasheet-180744121.pdf?src-supplier=IHS; ComponentLink2Description: https://datasheet.octopart.com:443/PC817X1J000F-Sharp-datasheet-180744121.pdf?src-supplier=IHS; ComponentLink3URL: https://datasheet.octopart.com:443/PC817X1J000F-Sharp-Microelectronics-datasheet-123893.pdf?src-supplier=DigiKey; ComponentLink3Description: https://datasheet.octopart.com:443/PC817X1J000F-Sharp-Microelectronics-datasheet-123893.pdf?src-supplier=DigiKey
footprint PC817
pins: 1 A, 2 C, 3 E, 4 C

## RC0603FR-07330RL
designator R?, comment 330 Ohm
Res Thick Film 0603 330 Ohm 1% 0.1W(1/10W) ±100ppm/C Pad SMD T/R; Manufacturer: Yageo Group; Manufacturer Part Number: RC0603FR-07330RL; Value: 47µF; ESR (Equivalent Series Resistance): 800mΩ; Max Power Dissipation: 100mW; Temperature Coefficient: 100ppm/°C; Voltage Rating: 16V; Voltage Rating (AC): 50V; Working Voltage: 75V; Supplier: Farnell; Supplier Part Number: 9238425; RoHS: Compliant; Category: Chip SMD Resistors; Stock: 528709; Pricing: 10=0,0086, 100=0,0077, 500=0,0061, 1000=0,0046, 2500=0,0036 (EUR); Case/Package: 2917; Case Code (Imperial): 2917; Case Code (Metric): 7343; China RoHS: Non-Compliant; Composition: Thick Film; Depth: 800µm; Features: Moisture Resistant; Height: 450µm; Lead Free: Lead Free; Length: 7.3mm; Lifecycle Status: Production; Max Operating Temperature: 155°C; Min Operating Temperature: -55°C; Mounting Technology: Surface Mount; Pins: 2; Number of Terminals: 2; Number of Terminations: 2; Packaging: Tape and Reel; Power Dissipation: 100mW; Power Rating: 100mW; Radiation Hardening: No; REACH SVHC: Yes; Schedule B: 8533210045, 8533210045|8533210045, 8533210045|8533210045|8533210045, 8533210045|8533210045|8533210045|8533210045; Termination: SMD/SMT; Tolerance: 1%; Voltage Rating (DC): 16V; Width: 800µm; ComponentLink1URL: https://datasheet.octopart.com:443/RC0603FR-07330RL-Yageo-datasheet-175887523.pdf?src-supplier=IHS; ComponentLink1Description: https://datasheet.octopart.com:443/RC0603FR-07330RL-Yageo-datasheet-175887523.pdf?src-supplier=IHS; ComponentLink2URL: https://datasheet.octopart.com:443/RC0603FR-07330RL-Yageo-datasheet-62067350.pdf?src-supplier=Newark; ComponentLink2Description: https://datasheet.octopart.com:443/RC0603FR-07330RL-Yageo-datasheet-62067350.pdf?src-supplier=Newark; ComponentLink3URL: https://datasheet.octopart.com:443/RC0603FR-07330RL-Yageo-datasheet-12596169.pdf?src-supplier=Newark; ComponentLink3Description: https://datasheet.octopart.com:443/RC0603FR-07330RL-Yageo-datasheet-12596169.pdf?src-supplier=Newark; ComponentLink4URL: https://datasheet.octopart.com:443/RC0603FR-07330RL-Yageo-datasheet-503470.pdf?src-supplier=Newark; ComponentLink4Description: https://datasheet.octopart.com:443/RC0603FR-07330RL-Yageo-datasheet-503470.pdf?src-supplier=Newark; ComponentLink5URL: https://datasheet.octopart.com:443/RC0603FR-07330RL-Yageo-datasheet-34211833.pdf?src-supplier=Newark; ComponentLink5Description: https://datasheet.octopart.com:443/RC0603FR-07330RL-Yageo-datasheet-34211833.pdf?src-supplier=Newark; ComponentLink6URL: https://datasheet.octopart.com:443/RC0603FR-07330RL-Yageo-datasheet-103092701.pdf?src-supplier=Upverter; ComponentLink6Description: https://datasheet.octopart.com:443/RC0603FR-07330RL-Yageo-datasheet-103092701.pdf?src-supplier=Upverter; ComponentLink7URL: https://datasheet.octopart.com:443/RC0603FR-07330RL-Yageo-datasheet-98239111.pdf?src-supplier=Upverter; ComponentLink7Description: https://datasheet.octopart.com:443/RC0603FR-07330RL-Yageo-datasheet-98239111.pdf?src-supplier=Upverter; ComponentLink8URL: https://datasheet.octopart.com:443/RC0603FR-07330RL-Yageo-datasheet-8328172.pdf?src-supplier=element14+APAC; ComponentLink8Description: https://datasheet.octopart.com:443/RC0603FR-07330RL-Yageo-datasheet-8328172.pdf?src-supplier=element14+APAC; ComponentLink9URL: https://datasheet.octopart.com:443/RC0603FR-07330RL-Yageo-datasheet-15599030.pdf?src-supplier=Future+Electronics; ComponentLink9Description: https://datasheet.octopart.com:443/RC0603FR-07330RL-Yageo-datasheet-15599030.pdf?src-supplier=Future+Electronics; ComponentLink10URL: https://datasheet.octopart.com:443/RC0603FR-07330RL-Yageo-datasheet-164759695.pdf?src-supplier=Future+Electronics; ComponentLink10Description: https://datasheet.octopart.com:443/RC0603FR-07330RL-Yageo-datasheet-164759695.pdf?src-supplier=Future+Electronics; ComponentLink11URL: https://datasheet.octopart.com:443/RC0603FR-07330RL-Yageo-datasheet-137700087.pdf?src-supplier=Future+Electronics; ComponentLink11Description: https://datasheet.octopart.com:443/RC0603FR-07330RL-Yageo-datasheet-137700087.pdf?src-supplier=Future+Electronics; ComponentLink12URL: https://datasheet.octopart.com:443/RC0603FR-07330RL-Yageo-datasheet-27584510.pdf?src-supplier=Future+Electronics; ComponentLink12Description: https://datasheet.octopart.com:443/RC0603FR-07330RL-Yageo-datasheet-27584510.pdf?src-supplier=Future+Electronics; ComponentLink13URL: https://datasheet.octopart.com:443/RC0603FR-07330RL-Yageo-datasheet-8324193.pdf?src-supplier=Future+Electronics; ComponentLink13Description: https://datasheet.octopart.com:443/RC0603FR-07330RL-Yageo-datasheet-8324193.pdf?src-supplier=Future+Electronics; ComponentLink14URL: https://datasheet.octopart.com:443/RC0603FR-07330RL-Yageo-datasheet-79472498.pdf?src-supplier=Megastar; ComponentLink14Description: https://datasheet.octopart.com:443/RC0603FR-07330RL-Yageo-datasheet-79472498.pdf?src-supplier=Megastar; ComponentLink15URL: https://datasheet.octopart.com/RC0603FR-07330RL-Yageo-datasheet-73766026.pdf; ComponentLink15Description: https://datasheet.octopart.com/RC0603FR-07330RL-Yageo-datasheet-73766026.pdf; ComponentLink16URL: https://datasheet.octopart.com:443/RC0603FR-07330RL-Yageo-datasheet-13691069.pdf?src-supplier=Farnell; ComponentLink16Description: https://datasheet.octopart.com:443/RC0603FR-07330RL-Yageo-datasheet-13691069.pdf?src-supplier=Farnell; ComponentLink17URL: https://datasheet.octopart.com:443/RC0603FR-07330RL-Yageo-datasheet-118562.pdf?src-supplier=DigiKey; ComponentLink17Description: https://datasheet.octopart.com:443/RC0603FR-07330RL-Yageo-datasheet-118562.pdf?src-supplier=DigiKey; ComponentLink18URL: http://sigma.octopart.com:80/conflict_mineral_statement/Yageo-company-3.pdf?src-supplier=Compliance+Statements; ComponentLink18Description: http://sigma.octopart.com:80/conflict_mineral_statement/Yageo-company-3.pdf?src-supplier=Compliance+Statements; ComponentLink19URL: http://sigma.octopart.com:80/rohs_statement/Yageo-company-2.pdf?src-supplier=Compliance+Statements; ComponentLink19Description: http://sigma.octopart.com:80/rohs_statement/Yageo-company-2.pdf?src-supplier=Compliance+Statements
footprint RES0603- RC0603FR-07330RL (Chip Resistor, 2-Leads, Body 1,60x0,80mm, IPC Medium Density)
pins: 1, 2

## SMCJ33A
designator D?
Diode Transient Voltage Suppressor (TVS) Single Uni Directional 33V 1.5KW 2-Pin SMC T/R; Manufacturer: Littelfuse; Breakdown Voltage: 38.65V; Clamping Voltage: 53.3V; Forward Voltage: 3.5V; Leakage Current: 1µA; Max Breakdown Voltage: 40.6V; Max Junction Temperature (Tj): 150°C; Max Power Dissipation: 6.5W; Max Surge Current: 28.2A; Min Breakdown Voltage: 36.7V; Number of Channels: 1; Power Line Protection: No; Test Current: 1mA; Supplier: Future Electronics; Supplier Part Number: 2104344; Manufacturer Part Number: SMCJ33A; RoHS: Compliant; Category: TVS Diodes; Stock: 15000; Pricing: 3000=0,123, 6000=0,122, 9000=0,121, 15000=0,12, 30000=0,118 (USD); Case/Package: SMC; China RoHS: Non-Compliant; Composition: Zener; Direction: Unidirectional; Element Configuration: Single; Height: 2.62mm; Lead Free: Lead Free; Length: 7.11mm; Lifecycle Status: Production; Max Operating Temperature: 150°C; Max Reverse Leakage Current: 1µA; Min Operating Temperature: -65°C; Mounting Technology: Surface Mount; Number of Elements: 1; Pins: 2; Number of Terminals: 2; Number of Unidirectional Channels: 1; Operating Supply Voltage: 33V; Peak Pulse Current: 28.2A; Peak Pulse Power: 1.5kW; Peak Reverse Current: 1µA; Polarity: Unidirectional; Power Rating: 1.5kW; Radiation Hardening: No; REACH SVHC: No; Reverse Breakdown Voltage: 36.7V; Reverse Standoff Voltage: 33V; Reverse Voltage: 33V; Schedule B: 8541100080, 8541100080|8541100080|8541100080|8541100080|8541100080|8541100080|8541100080|8541100080|8541100080|8541100080|8541100080|8541100080|8541100080|8541100080|8541100080|8541100080|8541100080|8541100080|8541100080|8541100080|8541100080|8541100080|8541100080|85; Termination: SMD/SMT; Voltage Rating (DC): 33V; Width: 6.22mm; ComponentLink1URL: https://datasheet.octopart.com:443/SMCJ33A-Littelfuse-datasheet-150463582.pdf?src-supplier=element14+APAC; ComponentLink1Description: https://datasheet.octopart.com:443/SMCJ33A-Littelfuse-datasheet-150463582.pdf?src-supplier=element14+APAC; ComponentLink2URL: https://datasheet.octopart.com:443/SMCJ33A-Littelfuse-datasheet-8450502.pdf?src-supplier=element14+APAC; ComponentLink2Description: https://datasheet.octopart.com:443/SMCJ33A-Littelfuse-datasheet-8450502.pdf?src-supplier=element14+APAC; ComponentLink3URL: https://datasheet.octopart.com:443/SMCJ33A-Littelfuse-datasheet-10669596.pdf?src-supplier=element14+APAC; ComponentLink3Description: https://datasheet.octopart.com:443/SMCJ33A-Littelfuse-datasheet-10669596.pdf?src-supplier=element14+APAC; ComponentLink4URL: https://datasheet.octopart.com:443/SMCJ33A-Littelfuse-datasheet-5314397.pdf?src-supplier=element14+APAC; ComponentLink4Description: https://datasheet.octopart.com:443/SMCJ33A-Littelfuse-datasheet-5314397.pdf?src-supplier=element14+APAC; ComponentLink5URL: https://datasheet.octopart.com:443/SMCJ33A-Littelfuse-datasheet-530249.pdf?src-supplier=element14+APAC; ComponentLink5Description: https://datasheet.octopart.com:443/SMCJ33A-Littelfuse-datasheet-530249.pdf?src-supplier=element14+APAC; ComponentLink6URL: https://datasheet.octopart.com:443/SMCJ33A-Littelfuse-datasheet-65933527.pdf?src-supplier=Farnell; ComponentLink6Description: https://datasheet.octopart.com:443/SMCJ33A-Littelfuse-datasheet-65933527.pdf?src-supplier=Farnell; ComponentLink7URL: https://datasheet.octopart.com:443/SMCJ33A-Littelfuse-datasheet-158204059.pdf?src-supplier=Electro+Sonic; ComponentLink7Description: https://datasheet.octopart.com:443/SMCJ33A-Littelfuse-datasheet-158204059.pdf?src-supplier=Electro+Sonic; ComponentLink8URL: https://datasheet.octopart.com:443/SMCJ33A-Littelfuse-datasheet-34142008.pdf?src-supplier=Burklin+Elektronik; ComponentLink8Description: https://datasheet.octopart.com:443/SMCJ33A-Littelfuse-datasheet-34142008.pdf?src-supplier=Burklin+Elektronik; ComponentLink9URL: https://datasheet.octopart.com:443/SMCJ33A-Littelfuse-datasheet-24577164.pdf?src-supplier=Fuses+Unlimited; ComponentLink9Description: https://datasheet.octopart.com:443/SMCJ33A-Littelfuse-datasheet-24577164.pdf?src-supplier=Fuses+Unlimited; ComponentLink10URL: https://datasheet.octopart.com:443/SMCJ33A-Littelfuse-datasheet-164649626.pdf?src-supplier=JRH+Electronics; ComponentLink10Description: https://datasheet.octopart.com:443/SMCJ33A-Littelfuse-datasheet-164649626.pdf?src-supplier=JRH+Electronics; ComponentLink11URL: https://datasheet.octopart.com:443/SMCJ33A-Littelfuse-datasheet-10453205.pdf?src-supplier=Jameco; ComponentLink11Description: https://datasheet.octopart.com:443/SMCJ33A-Littelfuse-datasheet-10453205.pdf?src-supplier=Jameco; ComponentLink12URL: https://datasheet.octopart.com:443/SMCJ33A-Littelfuse-datasheet-1147.pdf?src-supplier=DigiKey; ComponentLink12Description: https://datasheet.octopart.com:443/SMCJ33A-Littelfuse-datasheet-1147.pdf?src-supplier=DigiKey
footprint SMCJ33A
pins: 1 C, 2 A

## ST-LİNK
designator *
footprint ST-LİNK
pins: 1 VCC, 2 SWDIO, 3 SWCLK, 4 GND, 5 NRST

## STM32G474RET6
designator U?
MCU 32-bit ARM Cortex M4 RISC 512KB Flash 1.8V/2.5V/3.3V 64-Pin LQFP Tray; Manufacturer: STMicroelectronics; ADC Channels (Resolution): 26-Ch 12-Bit; Core Architecture: ARM Cortex-M4; DAC Channels (Resolution): 7-Ch 12-Bit; Data Bus Width: 32b; EEPROM Memory Size: 0B; Frequency: 170MHz; Interface: QSPI, USB; Clock Frequency: 48MHz; Max Junction Temperature (Tj): 105°C; Max Supply Current: 34mA; Max Supply Voltage: 3.6V; Min Supply Voltage: 1.71V; Number of A/D Converters: 5; Number of ADC Channels: 26; Number of D/A Converters: 3; Number of I2C Channels: 4; Number of I/Os: 9; Number of Interrupts: 16; Number of PWM Channels: 32; Number of Timers/Counters: 15; Number of UART Channels: 2; Number of USB Channels: 1; Operating Supply Voltage: 3V; Peripherals: POR; RAM Size: 128kB; Supplier: Farnell; Supplier Part Number: 3132418; Manufacturer Part Number: STM32G474RET6; RoHS: Compliant; Category: Microcontrollers; Stock: 9665; Pricing: 1=6,99, 10=5,62, 25=5,21, 50=5,14, 100=5,06, 250=4,99 (EUR); Ambient Temperature Range High: 85°C; China RoHS: Compliant; Flash Memory Size: 512kB; Height: 1.6mm; Height - Seated (Max): 1.6mm; Length: 10mm; Lifecycle Status: Production; Max Operating Temperature: 85°C; Memory Size: 512kB; Memory Format: FLASH; Min Operating Temperature: -40°C; Number of Channels: 26; Number of SPI Channels: 3; Number of Terminals: 64; Number of USART Channels: 3; REACH SVHC: Yes; Schedule B: 8542310000, 8542310000|8542310000|8542310000|8542310000|8542310000; Terminal Pitch: 500µm; Width: 10mm; ComponentLink1URL: https://datasheet.octopart.com:443/STM32G474RET6-STMicroelectronics-datasheet-181247485.pdf?src-supplier=IHS; ComponentLink1Description: https://datasheet.octopart.com:443/STM32G474RET6-STMicroelectronics-datasheet-181247485.pdf?src-supplier=IHS; ComponentLink2URL: https://datasheet.octopart.com:443/STM32G474RET6-STMicroelectronics-datasheet-144618862.pdf?src-supplier=TME; ComponentLink2Description: https://datasheet.octopart.com:443/STM32G474RET6-STMicroelectronics-datasheet-144618862.pdf?src-supplier=TME; ComponentLink3URL: https://datasheet.octopart.com:443/STM32G474RET6-STMicroelectronics-datasheet-136696182.pdf?src-supplier=Future+Electronics; ComponentLink3Description: https://datasheet.octopart.com:443/STM32G474RET6-STMicroelectronics-datasheet-136696182.pdf?src-supplier=Future+Electronics
footprint STM32G474RET6
pins: 1 VBAT, 2 PC13, 3 PC14 - OSC32_IN, 4 PC15 - OSC32_OUT, 5 PF0 - OSC_IN, 6 PF1 - OSC_OUT, 7 PG10-NRST, 8 PC0, 9 PC1, 10 PC2, 11 PC3, 12 PA0, 13 PA1, 14 PA2, 15 VSS, 16 VDD, 17 PA3, 18 PA4, 19 PA5, 20 PA6, 21 PA7, 22 PC4, 23 PC5, 24 PB0, 25 PB1, 26 PB2, 27 VSSA, 28 VREF+, 29 VDDA, 30 PB10, 31 VSS, 32 VDD, 33 PB11, 34 PB12, 35 PB13, 36 PB14, 37 PB15, 38 PC6, 39 PC7, 40 PC8, 41 PC9, 42 PA8, 43 PA9, 44 PA10, 45 PA11, 46 PA12, 47 VSS, 48 VDD, 49 PA13, 50 PA14, 51 PA15, 52 PC10, 53 PC11, 54 PC12, 55 PD2, 56 PB3, 57 PB4, 58 PB5, 59 PB6, 60 PB7, 61 PB8-BOOT0, 62 PB9, 63 VSS, 64 VDD

## TB - 2PİN- MOT
designator J?
footprint TB - 2PİN- MOT
pins: 1 0, 2 1

## Terminal Block - 2pin
designator J?, comment Bat
footprint TB 2pin
pins: 1 0, 2 1

## TESTPOINTS
designator *
footprint TESTPOINTS
pins: EN TESTPOINT, GH1 TESTPOINT, GH2 TESTPOINT, GL1 TESTPOINT, GL2 TESTPOINT, PH TESTPOINT, SH1 TESTPOINT, SH2 TESTPOINT, SN TESTPOINT, SO TESTPOINT, SP TESTPOINT, TMP TESTPOINT